# Altium footprint library Lab_3.PcbLib: 5 footprints
Each footprint in its own frame and in the unit in brackets; x right, y up, seen from the top. Pads: shape width x height; smd on the part's side, far side on the other; paste and mask are expansions set on the pad; w line width, h text height; cw(c..) or ccw(c..) is an arc to the next point about the centre after c.
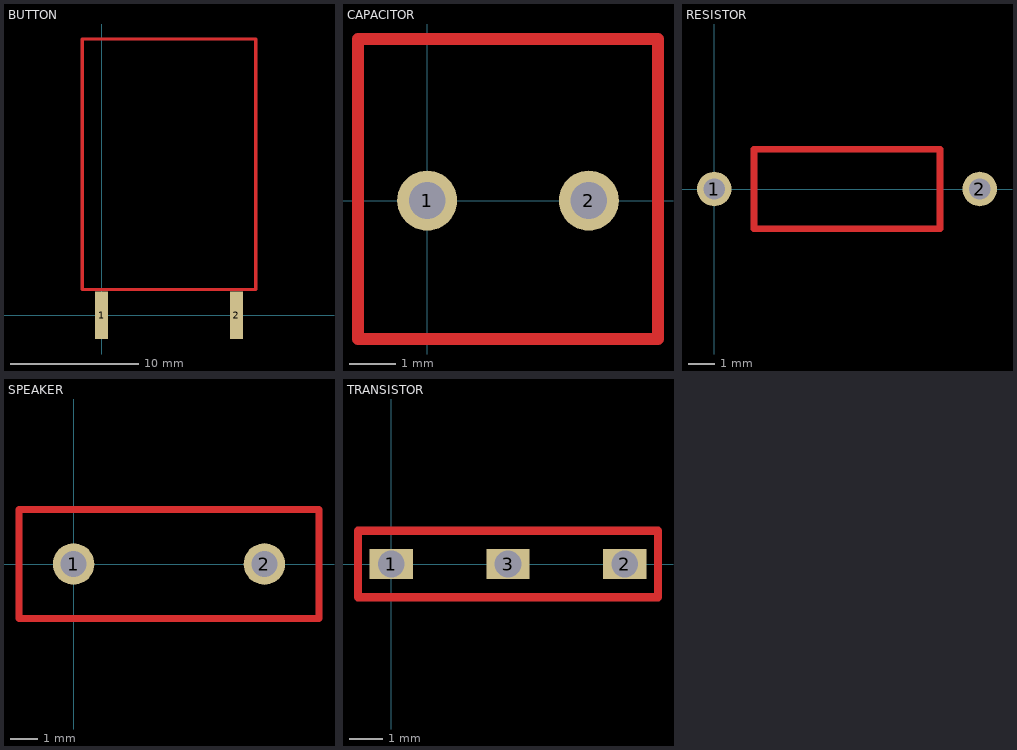
[diagram p0: the footprints below, top view; thin cyan lines are the x and y axes]

## BUTTON [mm]
pads (2):
  rect 1x3.7 all layers, no hole: 1(0,0) 2(10.5,0)
Top Layer:
  lines w0.254: -1.5,2 11.5,2 12,2 12,21.5 -1.5,21.5 -1.5,2

## CAPACITOR [mm]
pads (2):
  round 1.3 hole 0.8: 1(0,0) 2(3.5,0)
Top Layer:
  lines w0.254: -1.5,-3 5,-3 5,3.5 -1.5,3.5 -1.5,1 -1.5,-3

## RESISTOR [mm]
pads (2):
  round 1.3 hole 0.8: 1(0,0) 2(10,0)
Top Layer:
  lines w0.254: 1.5,-1.5 8.5,-1.5 8.5,1.5 1.5,1.5 1.5,-1.5

## SPEAKER [mil]
pads (2):
  round 60 hole 38: 1(0,0) 2(275.59,0)
Top Layer:
  lines w10: -78.74,-78.74 354.33,-78.74 354.33,78.74 -78.74,78.74 -78.74,-78.74

## TRANSISTOR [mm]
pads (3):
  rect 1.3x0.9 hole 0.8 unplated: 1(0,0) 2(7,0) 3(3.5,0)
Top Layer:
  lines w0.254: -1,-1 5,-1 8,-1 8,1 5,1 -1,1 -1,-1